# Altium footprint library Capacitor_Tantalum_SMD.PcbLib: 56 footprints (part 2 of 4)
Each footprint in its own frame and in the unit in brackets; x right, y up, seen from the top. Pads: shape width x height; smd on the part's side, far side on the other; paste and mask are expansions set on the pad; w line width, h text height; cw(c..) or ccw(c..) is an arc to the next point about the centre after c.
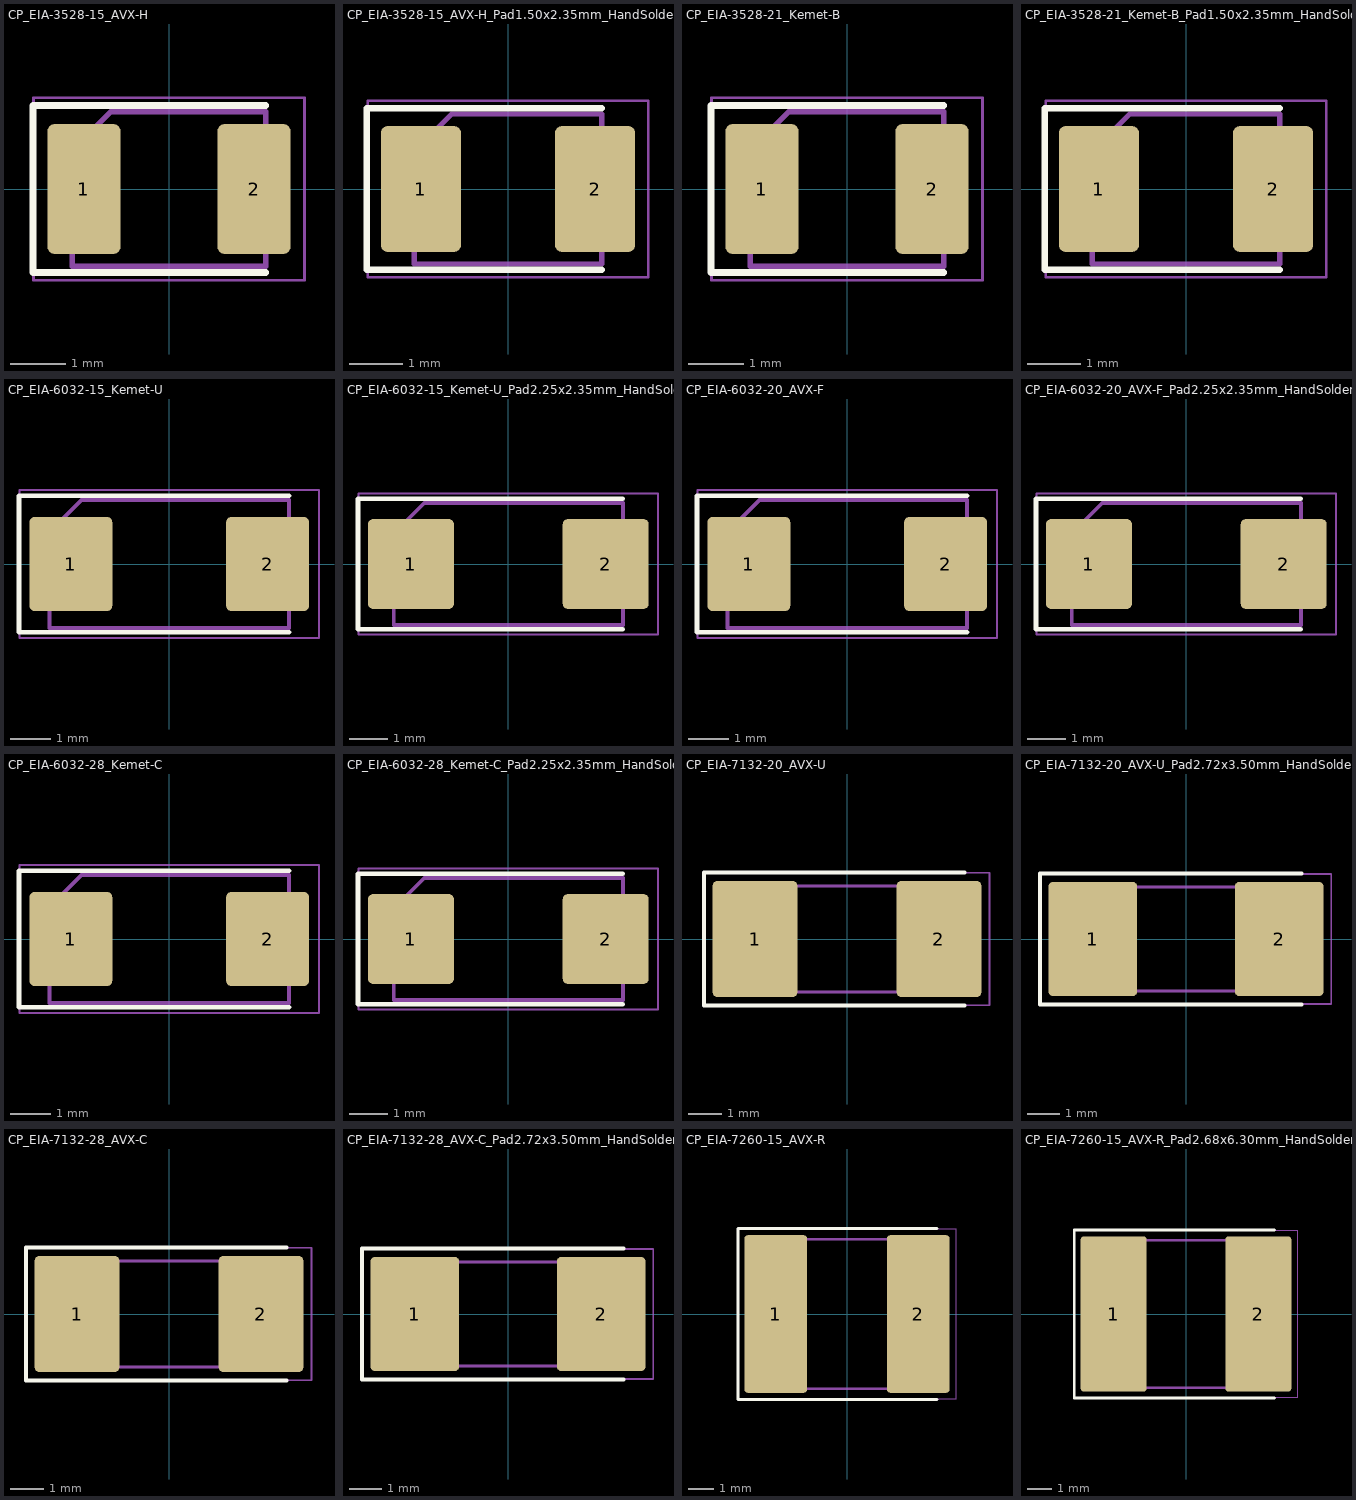
[diagram p1: the footprints below, top view; thin cyan lines are the x and y axes]

## CP_EIA-3528-15_AVX-H [mm]
pads (2):
  rrect19% 1.325x2.35 smd: 1(-1.538,0) 2(1.538,0)
F.SilkS:
  lines w0.12: 1.75,-1.51 -2.46,-1.51 -2.46,1.51 1.75,1.51
F.CrtYd:
  lines w0.05: -2.45,-1.65 2.45,-1.65 2.45,1.65 -2.45,1.65 -2.45,-1.65
F.Fab:
  lines w0.1: -1.75,-1.4 -1.75,0.7 -1.05,1.4 1.75,1.4 1.75,-1.4 -1.75,-1.4
  text "'.Designator'" at -3.559,-0.737 h0.88

## CP_EIA-3528-15_AVX-H_Pad1.50x2.35mm_HandSolder [mm]
pads (2):
  rrect17% 1.5x2.35 smd: 1(-1.625,0) 2(1.625,0)
F.SilkS:
  lines w0.12: 1.75,-1.51 -2.635,-1.51 -2.635,1.51 1.75,1.51
F.CrtYd:
  lines w0.05: -2.62,-1.65 -2.62,1.65 2.62,1.65 2.62,-1.65 -2.62,-1.65
F.Fab:
  lines w0.1: -1.75,-1.4 1.75,-1.4 1.75,1.4 -1.05,1.4 -1.75,0.7 -1.75,-1.4
  text "'.Designator'" at -3.559,-0.737 h0.88

## CP_EIA-3528-21_Kemet-B [mm]
pads (2):
  rrect19% 1.325x2.35 smd: 1(-1.538,0) 2(1.538,0)
F.SilkS:
  lines w0.12: 1.75,-1.51 -2.46,-1.51 -2.46,1.51 1.75,1.51
F.CrtYd:
  lines w0.05: -2.45,-1.65 -2.45,1.65 2.45,1.65 2.45,-1.65 -2.45,-1.65
F.Fab:
  lines w0.1: -1.75,-1.4 -1.75,0.7 -1.05,1.4 1.75,1.4 1.75,-1.4 -1.75,-1.4
  text "'.Designator'" at -3.559,-0.737 h0.88

## CP_EIA-3528-21_Kemet-B_Pad1.50x2.35mm_HandSolder [mm]
pads (2):
  rrect17% 1.5x2.35 smd: 1(-1.625,0) 2(1.625,0)
F.SilkS:
  lines w0.12: 1.75,-1.51 -2.635,-1.51 -2.635,1.51 1.75,1.51
F.CrtYd:
  lines w0.05: -2.62,-1.65 -2.62,1.65 2.62,1.65 2.62,-1.65 -2.62,-1.65
F.Fab:
  lines w0.1: -1.75,-1.4 1.75,-1.4 1.75,1.4 -1.05,1.4 -1.75,0.7 -1.75,-1.4
  text "'.Designator'" at -3.559,-0.737 h0.88

## CP_EIA-6032-15_Kemet-U [mm]
pads (2):
  rrect12% 2.075x2.35 smd: 1(-2.462,0) 2(2.462,0)
F.SilkS:
  lines w0.12: 3,-1.71 -3.76,-1.71 -3.76,1.71 3,1.71
F.CrtYd:
  lines w0.05: -3.75,-1.85 -3.75,1.85 3.75,1.85 3.75,-1.85 -3.75,-1.85
F.Fab:
  lines w0.1: -3,-1.6 3,-1.6 3,1.6 -2.2,1.6 -3,0.8 -3,-1.6
  text "'.Designator'" at -4.047,-0.84 h1

## CP_EIA-6032-15_Kemet-U_Pad2.25x2.35mm_HandSolder [mm]
pads (2):
  rrect11% 2.25x2.35 smd: 1(-2.55,0) 2(2.55,0)
F.SilkS:
  lines w0.12: 3,-1.71 -3.935,-1.71 -3.935,1.71 3,1.71
F.CrtYd:
  lines w0.05: -3.92,-1.85 -3.92,1.85 3.92,1.85 3.92,-1.85 -3.92,-1.85
F.Fab:
  lines w0.1: -3,-1.6 -3,0.8 -2.2,1.6 3,1.6 3,-1.6 -3,-1.6
  text "'.Designator'" at -4.047,-0.84 h1

## CP_EIA-6032-20_AVX-F [mm]
pads (2):
  rrect12% 2.075x2.35 smd: 1(-2.462,0) 2(2.462,0)
F.SilkS:
  lines w0.12: 3,-1.71 -3.76,-1.71 -3.76,1.71 3,1.71
F.CrtYd:
  lines w0.05: -3.75,-1.85 3.75,-1.85 3.75,1.85 -3.75,1.85 -3.75,-1.85
F.Fab:
  lines w0.1: -3,-1.6 -3,0.8 -2.2,1.6 3,1.6 3,-1.6 -3,-1.6
  text "'.Designator'" at -4.047,-0.84 h1

## CP_EIA-6032-20_AVX-F_Pad2.25x2.35mm_HandSolder [mm]
pads (2):
  rrect11% 2.25x2.35 smd: 1(-2.55,0) 2(2.55,0)
F.SilkS:
  lines w0.12: 3,-1.71 -3.935,-1.71 -3.935,1.71 3,1.71
F.CrtYd:
  lines w0.05: -3.92,-1.85 -3.92,1.85 3.92,1.85 3.92,-1.85 -3.92,-1.85
F.Fab:
  lines w0.1: -3,-1.6 -3,0.8 -2.2,1.6 3,1.6 3,-1.6 -3,-1.6
  text "'.Designator'" at -4.047,-0.84 h1

## CP_EIA-6032-28_Kemet-C [mm]
pads (2):
  rrect12% 2.075x2.35 smd: 1(-2.462,0) 2(2.462,0)
F.SilkS:
  lines w0.12: 3,-1.71 -3.76,-1.71 -3.76,1.71 3,1.71
F.CrtYd:
  lines w0.05: -3.75,-1.85 3.75,-1.85 3.75,1.85 -3.75,1.85 -3.75,-1.85
F.Fab:
  lines w0.1: -3,-1.6 -3,0.8 -2.2,1.6 3,1.6 3,-1.6 -3,-1.6
  text "'.Designator'" at -4.047,-0.84 h1

## CP_EIA-6032-28_Kemet-C_Pad2.25x2.35mm_HandSolder [mm]
pads (2):
  rrect11% 2.25x2.35 smd: 1(-2.55,0) 2(2.55,0)
F.SilkS:
  lines w0.12: 3,-1.71 -3.935,-1.71 -3.935,1.71 3,1.71
F.CrtYd:
  lines w0.05: -3.92,-1.85 3.92,-1.85 3.92,1.85 -3.92,1.85 -3.92,-1.85
F.Fab:
  lines w0.1: -3,-1.6 -3,0.8 -2.2,1.6 3,1.6 3,-1.6 -3,-1.6
  text "'.Designator'" at -4.047,-0.84 h1

## CP_EIA-7132-20_AVX-U [mm]
pads (2):
  rrect10% 2.55x3.5 smd: 1(-2.775,0) 2(2.775,0)
F.SilkS:
  lines w0.12: 3.55,-2.01 -4.31,-2.01 -4.31,2.01 3.55,2.01
F.CrtYd:
  lines w0.05: -4.3,-2 -4.3,2 4.3,2 4.3,-2 -4.3,-2
F.Fab:
  lines w0.1: -3.55,-1.6 3.55,-1.6 3.55,1.6 -2.75,1.6 -3.55,0.8 -3.55,-1.6
  text "'.Designator'" at -4.047,-0.84 h1

## CP_EIA-7132-20_AVX-U_Pad2.72x3.50mm_HandSolder [mm]
pads (2):
  rrect9% 2.725x3.5 smd: 1(-2.863,0) 2(2.863,0)
F.SilkS:
  lines w0.12: 3.55,-2.01 -4.485,-2.01 -4.485,2.01 3.55,2.01
F.CrtYd:
  lines w0.05: -4.47,-2 -4.47,2 4.47,2 4.47,-2 -4.47,-2
F.Fab:
  lines w0.1: -3.55,-1.6 3.55,-1.6 3.55,1.6 -2.75,1.6 -3.55,0.8 -3.55,-1.6
  text "'.Designator'" at -4.047,-0.84 h1

## CP_EIA-7132-28_AVX-C [mm]
pads (2):
  rrect10% 2.55x3.5 smd: 1(-2.775,0) 2(2.775,0)
F.SilkS:
  lines w0.12: 3.55,-2.01 -4.31,-2.01 -4.31,2.01 3.55,2.01
F.CrtYd:
  lines w0.05: -4.3,-2 4.3,-2 4.3,2 -4.3,2 -4.3,-2
F.Fab:
  lines w0.1: -3.55,-1.6 3.55,-1.6 3.55,1.6 -2.75,1.6 -3.55,0.8 -3.55,-1.6
  text "'.Designator'" at -4.047,-0.84 h1

## CP_EIA-7132-28_AVX-C_Pad2.72x3.50mm_HandSolder [mm]
pads (2):
  rrect9% 2.725x3.5 smd: 1(-2.863,0) 2(2.863,0)
F.SilkS:
  lines w0.12: 3.55,-2.01 -4.485,-2.01 -4.485,2.01 3.55,2.01
F.CrtYd:
  lines w0.05: -4.47,-2 -4.47,2 4.47,2 4.47,-2 -4.47,-2
F.Fab:
  lines w0.1: -3.55,-1.6 -3.55,0.8 -2.75,1.6 3.55,1.6 3.55,-1.6 -3.55,-1.6
  text "'.Designator'" at -4.047,-0.84 h1

## CP_EIA-7260-15_AVX-R [mm]
pads (2):
  rrect10% 2.5x6.3 smd: 1(-2.85,0) 2(2.85,0)
F.SilkS:
  lines w0.12: 3.6,-3.41 -4.36,-3.41 -4.36,3.41 3.6,3.41
F.CrtYd:
  lines w0.05: -4.35,-3.4 -4.35,3.4 4.35,3.4 4.35,-3.4 -4.35,-3.4
F.Fab:
  lines w0.1: -3.6,-3 3.6,-3 3.6,3 -2.6,3 -3.6,2 -3.6,-3
  text "'.Designator'" at -4.047,-0.84 h1

## CP_EIA-7260-15_AVX-R_Pad2.68x6.30mm_HandSolder [mm]
pads (2):
  rrect9% 2.675x6.3 smd: 1(-2.937,0) 2(2.937,0)
F.SilkS:
  lines w0.12: 3.6,-3.41 -4.535,-3.41 -4.535,3.41 3.6,3.41
F.CrtYd:
  lines w0.05: -4.52,-3.4 -4.52,3.4 4.52,3.4 4.52,-3.4 -4.52,-3.4
F.Fab:
  lines w0.1: -3.6,-3 -3.6,2 -2.6,3 3.6,3 3.6,-3 -3.6,-3
  text "'.Designator'" at -4.047,-0.84 h1